# Altium integrated library Resistor.IntLib: 18 symbols
Pins are listed as number, name and electrical type; pins without a type are passive.

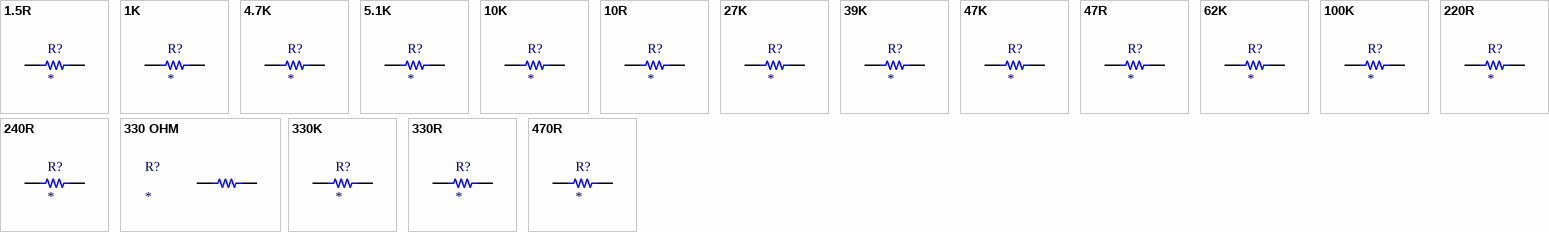
[diagram p0: symbols 1.5R to 470R]

## 1.5R
designator R?
SMT RES 1206
footprint SMT RES 1206
pins: 1, 2

## 1K
designator R?
SMT RES 1206
footprint SMT RES 1206
pins: 1, 2

## 4.7K
designator R?
SMT RES 1206
footprint SMT RES 1206
pins: 1, 2

## 5.1K
designator R?
SMT RES 1206
footprint SMT RES 1206
pins: 1, 2

## 10K
designator R?
SMT RES 1206
footprint SMT RES 1206
pins: 1, 2

## 10R
designator R?
SMT RES 1206
footprint SMT RES 1206
pins: 1, 2

## 27K
designator R?
SMT RES 1206
footprint SMT RES 1206
pins: 1, 2

## 39K
designator R?
SMT RES 1206
footprint SMT RES 1206
pins: 1, 2

## 47K
designator R?
SMT RES 1206
footprint SMT RES 1206
pins: 1, 2

## 47R
designator R?
SMT RES 1206
footprint SMT RES 1206
pins: 1, 2

## 62K
designator R?
SMT RES 1206
footprint SMT RES 1206
pins: 1, 2

## 100K
designator R?
SMT RES 1206
footprint SMT RES 1206
pins: 1, 2

## 220R
designator R?
SMT RES 1206
footprint SMT RES 1206
pins: 1, 2

## 240R
designator R?
SMT RES 1206
footprint SMT RES 1206
pins: 1, 2

## 330 OHM
designator R?
DPAK
footprint 330R RES
pins: 1, 2

## 330K
designator R?
SMT RES 1206
footprint SMT RES 1206
pins: 1, 2

## 330R
designator R?
SMT RES 1206
footprint SMT RES 1206
pins: 1, 2

## 470R
designator R?
SMT RES 1206
footprint SMT RES 1206
pins: 1, 2